# Altium footprint library LineSensorComponents.PcbLib: 2 footprints
Each footprint in its own frame and in the unit in brackets; x right, y up, seen from the top. Pads: shape width x height; smd on the part's side, far side on the other; paste and mask are expansions set on the pad; w line width, h text height; cw(c..) or ccw(c..) is an arc to the next point about the centre after c.
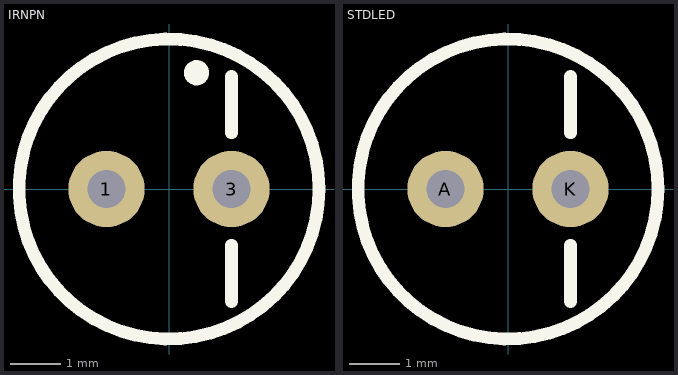
[diagram p0: the footprints below, top view; thin cyan lines are the x and y axes]

## IRNPN [mil]
height 354.33
pads (2):
  round 60 hole 30: 1(-49.21,0) 3(49.21,0)
Top Overlay:
  circle w10: c0,0 r118.11
  circle w10: c21.65,91.54 r4.92
  lines w10: 49.21,-88.58 49.21,-44.29 ; 49.21,44.29 49.21,88.58

## STDLED [mil]
height 354.33
pads (2):
  round 60 hole 30: A(-49.21,0) K(49.21,0)
Top Overlay:
  circle w10: c0,0 r118.11
  lines w10: 49.21,-88.58 49.21,-44.29 ; 49.21,44.29 49.21,88.58